# Altium footprint library PcbLib2.PcbLib: 1 footprints
Each footprint in its own frame and in the unit in brackets; x right, y up, seen from the top. Pads: shape width x height; smd on the part's side, far side on the other; paste and mask are expansions set on the pad; w line width, h text height; cw(c..) or ccw(c..) is an arc to the next point about the centre after c.
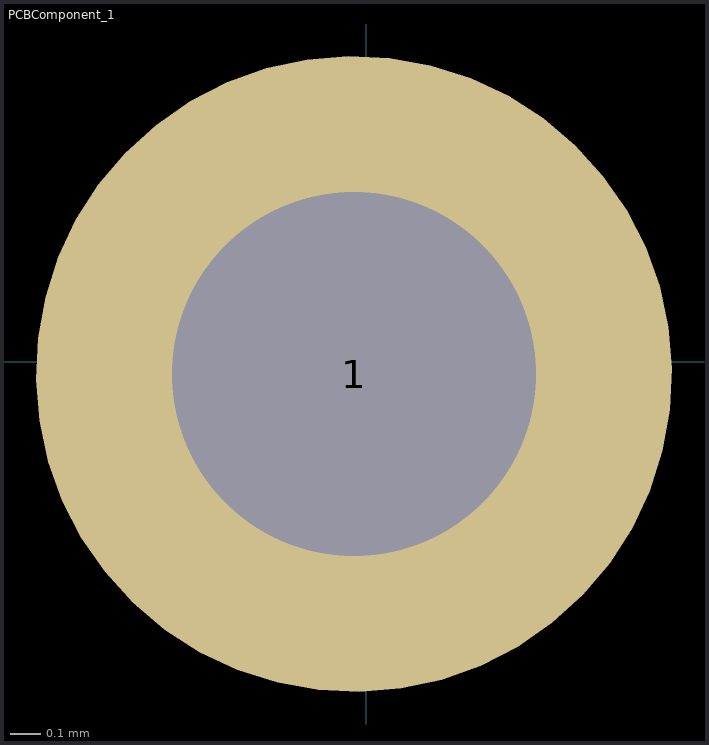
[diagram p0: the footprint, top view; thin cyan lines are the x and y axes]

## PCBComponent_1 [mm]
pads (1):
  round 2.1 hole 1.2: 1(-0.04,-0.04)
3D body "Pin.SLDPRT": height 5.19, standoff -6.35, extent -0.36,-0.36 0.28,0.28
3D body "0-1X1 Pin Seperator.SLDPRT": height -0.36, standoff -2.9, extent -1.31,-1.29 1.23,1.21